# EAGLE library part SENSOR-OPTICAL-TM2291 (library Discrete)
Infrared sensor signal processor
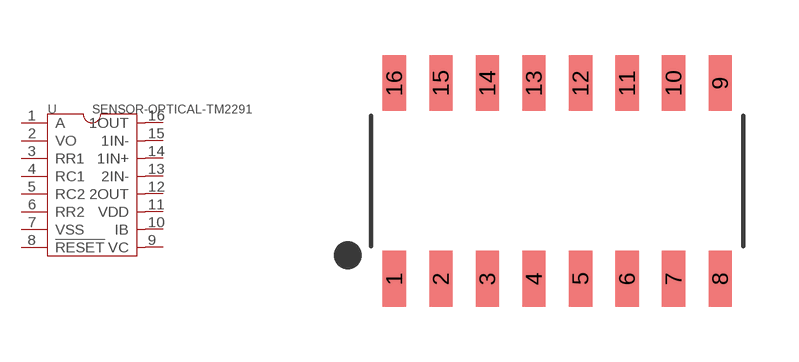
[diagram p2: symbol with the pads of SOP-16; footprint SOP-16]

Designator prefix U

## SENSOR-OPTICAL-TM2291-314020020  [SOP-16]
1  A
2  VO
3  RR1
4  RC1
5  RC2
6  RR2
7  VSS  sup
8  !RESET  in
9  VC
10  IB
11  VDD  sup
12  2OUT  out
13  2IN-  in
14  1IN+  in
15  1IN-  in
16  1OUT  out

## Footprint SOP-16 (pad centres in mm)
smd 0.635 x 1.524: 1 -4.445,-2.667; 2 -3.175,-2.667; 3 -1.905,-2.667; 4 -0.635,-2.667; 5 0.635,-2.667; 6 1.905,-2.667; 7 3.175,-2.667; 8 4.445,-2.667; 9 4.445,2.667; 10 3.175,2.667; 11 1.905,2.667; 12 0.635,2.667; 13 -0.635,2.667; 14 -1.905,2.667; 15 -3.175,2.667; 16 -4.445,2.667